# EAGLE library part DSPIC33EP512GM604 (library microLib)
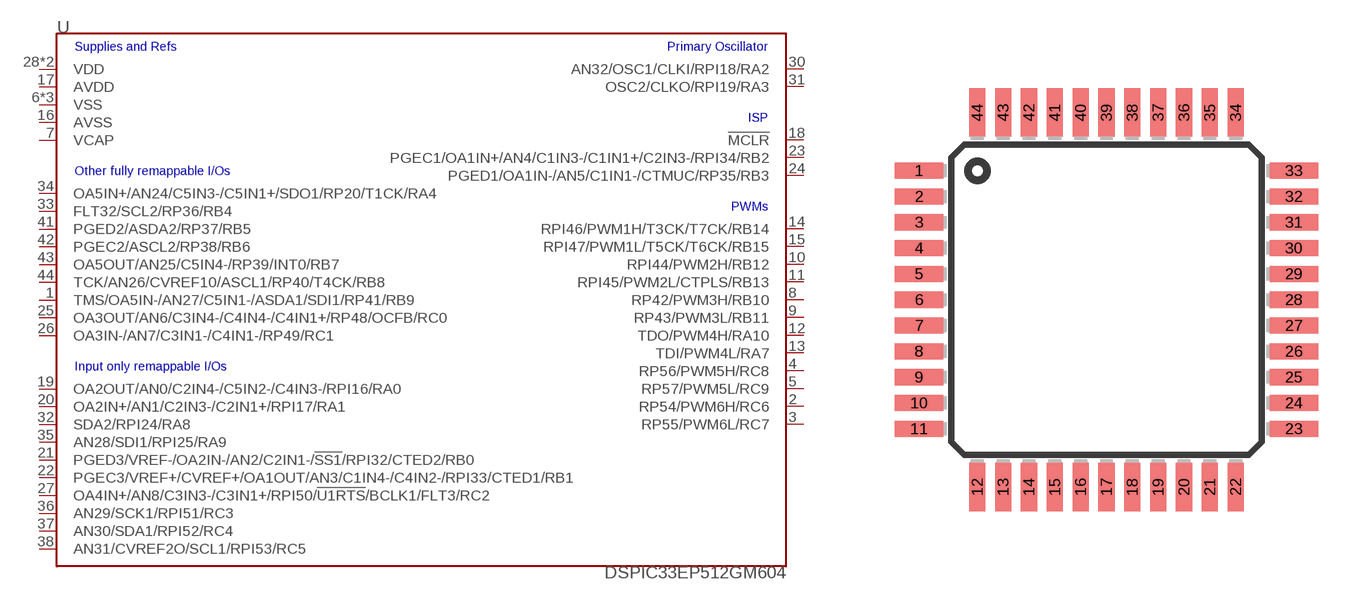
[diagram p26: symbol with the pads of TQFP_44; footprint TQFP_44]

Designator prefix -

## DSPIC33EP512GM604  [TQFP_44]
1  TMS/OA5IN-/AN27/C5IN1-/ASDA1/SDI1/RP41/RB9
2  RP54/PWM6H/RC6
3  RP55/PWM6L/RC7
4  RP56/PWM5H/RC8
5  RP57/PWM5L/RC9
6  VSS
7  VCAP
8  RP42/PWM3H/RB10
9  RP43/PWM3L/RB11
10  RPI44/PWM2H/RB12
11  RPI45/PWM2L/CTPLS/RB13
12  TDO/PWM4H/RA10
13  TDI/PWM4L/RA7
14  RPI46/PWM1H/T3CK/T7CK/RB14
15  RPI47/PWM1L/T5CK/T6CK/RB15
16  AVSS
17  AVDD
18  !MCLR!
19  OA2OUT/AN0/C2IN4-/C5IN2-/C4IN3-/RPI16/RA0
20  OA2IN+/AN1/C2IN3-/C2IN1+/RPI17/RA1
21  PGED3/VREF-/OA2IN-/AN2/C2IN1-/!SS1!/RPI32/CTED2/RB0
22  PGEC3/VREF+/CVREF+/OA1OUT/AN3/C1IN4-/C4IN2-/RPI33/CTED1/RB1
23  PGEC1/OA1IN+/AN4/C1IN3-/C1IN1+/C2IN3-/RPI34/RB2
24  PGED1/OA1IN-/AN5/C1IN1-/CTMUC/RP35/RB3
25  OA3OUT/AN6/C3IN4-/C4IN4-/C4IN1+/RP48/OCFB/RC0
26  OA3IN-/AN7/C3IN1-/C4IN1-/RP49/RC1
27  OA4IN+/AN8/C3IN3-/C3IN1+/RPI50/!U1RTS!/BCLK1/FLT3/RC2
28  VDD
29  VSS
30  AN32/OSC1/CLKI/RPI18/RA2
31  OSC2/CLKO/RPI19/RA3
32  SDA2/RPI24/RA8
33  FLT32/SCL2/RP36/RB4
34  OA5IN+/AN24/C5IN3-/C5IN1+/SDO1/RP20/T1CK/RA4
35  AN28/SDI1/RPI25/RA9
36  AN29/SCK1/RPI51/RC3
37  AN30/SDA1/RPI52/RC4
38  AN31/CVREF2O/SCL1/RPI53/RC5
39  VSS
40  VDD
41  PGED2/ASDA2/RP37/RB5
42  PGEC2/ASCL2/RP38/RB6
43  OA5OUT/AN25/C5IN4-/RP39/INT0/RB7
44  TCK/AN26/CVREF10/ASCL1/RP40/T4CK/RB8

## Footprint TQFP_44 (pad centres in mm)
smd 1.5 x 0.5: 1 -5.8,4; 2 -5.8,3.2; 3 -5.8,2.4; 4 -5.8,1.6; 5 -5.8,0.8; 6 -5.8,0; 7 -5.8,-0.8; 8 -5.8,-1.6; 9 -5.8,-2.4; 10 -5.8,-3.2; 11 -5.8,-4; 23 5.8,-4; 24 5.8,-3.2; 25 5.8,-2.4; 26 5.8,-1.6; 27 5.8,-0.8; 28 5.8,0; 29 5.8,0.8; 30 5.8,1.6; 31 5.8,2.4; 32 5.8,3.2; 33 5.8,4
smd 0.5 x 1.5: 12 -4,-5.8; 13 -3.2,-5.8; 14 -2.4,-5.8; 15 -1.6,-5.8; 16 -0.8,-5.8; 17 0,-5.8; 18 0.8,-5.8; 19 1.6,-5.8; 20 2.4,-5.8; 21 3.2,-5.8; 22 4,-5.8; 34 4,5.8; 35 3.2,5.8; 36 2.4,5.8; 37 1.6,5.8; 38 0.8,5.8; 39 0,5.8; 40 -0.8,5.8; 41 -1.6,5.8; 42 -2.4,5.8; 43 -3.2,5.8; 44 -4,5.8